# Altium schematic symbol library AP22653W6-7.SchLib: 1 symbol
Pins are listed as number, name and electrical type; pins without a type are passive.

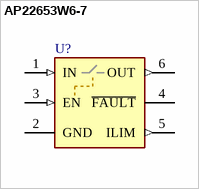
[diagram p0: symbol AP22653W6-7]

## AP22653W6-7
designator U?
pins: 1 IN (in), 2 GND (power), 3 EN (in), 4 ~{FAULT} (oc), 5 ILIM (out), 6 OUT (out)